# EAGLE library part 742C083470JP (library sbrio_backplane)
RES ARRAY 4 RES 120 OHM 1206
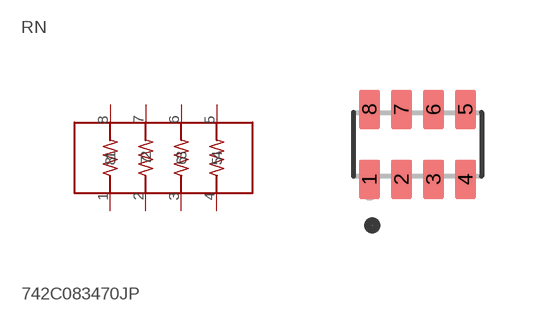
[diagram p5: symbol with the pads of RESCAV80P320X160X70-8N; footprint RESCAV80P320X160X70-8N]

Designator prefix RN

## 742C083470JP (DESCRIPTION: 47 Ohm ±5% 62.5mW Power Per Element Isolated 4 Resistor Network/Array ±200ppm/°C 1206 (3216 Metric), Concave, Long Side Terminals; DIGI-KEY_PART_NUMBER: 742C083470JPTR-ND; MF: CTS Components; MP: 742C083470JP; PACKAGE: 1206 CTS Resistor; PURCHASE-URL: https://pricing.snapeda.com/search/part/742C083470JP/?ref=eda)  [RESCAV80P320X160X70-8N]
1  1  pas
2  2  pas
3  3  pas
4  4  pas
5  5  pas
6  6  pas
7  7  pas
8  8  pas

## Footprint RESCAV80P320X160X70-8N (pad centres in mm)
smd 0.53 x 0.97: 1 -1.2,-0.875; 2 -0.4,-0.875; 3 0.4,-0.875; 4 1.2,-0.875; 5 1.2,0.875; 6 0.4,0.875; 7 -0.4,0.875; 8 -1.2,0.875